# Altium schematic symbol library Variable_Resistor_SCH_Library_ARAF.SchLib: 1 symbol
Pins are listed as number, name and electrical type; pins without a type are passive.

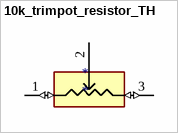
[diagram p0: symbol 10k_trimpot_resistor_TH]

## 10k_trimpot_resistor_TH
designator *
footprint TRIMPOT_TYPE1
pins: 1 (io), 2, 3 (io)